# Altium footprint library HiLinkPowerSupply.PcbLib: 4 footprints
Each footprint in its own frame and in the unit in brackets; x right, y up, seen from the top. Pads: shape width x height; smd on the part's side, far side on the other; paste and mask are expansions set on the pad; w line width, h text height; cw(c..) or ccw(c..) is an arc to the next point about the centre after c.
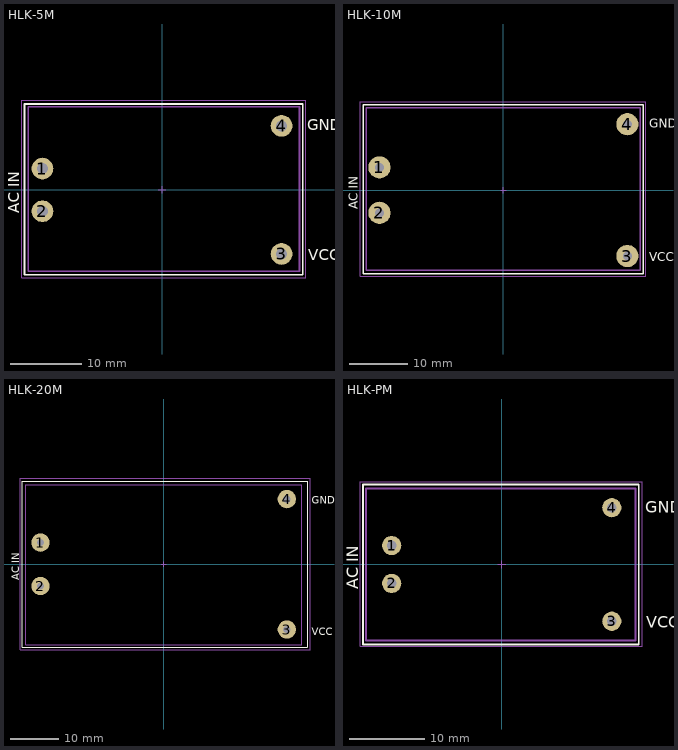
[diagram p0: the footprints below, top view; thin cyan lines are the x and y axes]

## HLK-5M [mil]
pads (4):
  round 120 hole 60: 1(-661.42,118.11) 2(-661.42,-118.11) 3(661.42,-354.33) 4(661.42,354.33)
Top Overlay:
  lines w10: -761.42,-470 -761.42,475 778.58,475 778.58,-470 -761.42,-470
  text "AC IN" at -791.42,-130 h60
  text "VCC" at 808.58,-390 h60
  text "GND" at 803.58,330 h60
Mechanical 1:
  lines w10: -740,-450 -740,460 760,460 760,-450 -740,-450
Top Designator:
  text ".Designator" at -236.14,-15.74 h47.24
Mechanical 15:
  lines w1.97: -775,-485 795,-485 795,495 -775,495 -775,-485
  lines w3.94: -19.68,0 19.69,0 ; 0,-19.68 0,19.69
3D body "User Library-hilink5M.step": height 709.05, standoff -196.85, extent -739.45,-447.76 756.61,457.76

## HLK-10M [mm]
pads (4):
  round 3.81 hole 1.524: 1(-21.25,3.9) 2(-21.25,-3.9) 3(21.25,-11.3) 4(21.25,11.3)
Top Overlay:
  lines w0.254: -24.044,-14.351 -24.044,14.605 23.962,14.605 23.962,-14.351 -24.044,-14.351
  text "VCC" at 24.978,-12.192 h1.52
  text "GND" at 24.978,10.668 h1.52
  text "AC IN" at -24.933,-3.302 h1.52
Mechanical 1:
  lines w0.254: -23.495,-13.716 -23.495,14.097 23.495,14.097 23.495,-13.716 -23.495,-13.716
Top Designator:
  text ".Designator" at -5.998,-0.273 h1.2
Mechanical 15:
  lines w0.05: -24.511,-14.732 24.384,-14.732 24.384,15.113 -24.511,15.113 -24.511,-14.732
  lines w0.1: -0.5,0 0.5,0 ; 0,-0.5 0,0.5
3D body "User Library-hilink10M.STEP": height 21.81, standoff -5, extent -23.446,-13.773 23.454,14.027

## HLK-20M [mm]
pads (4):
  round 3.81 hole 1.524: 1(-25.5,4.5) 2(-25.5,-4.5) 3(25.5,-13.5) 4(25.5,13.5)
Top Overlay:
  lines w0.254: -29.31,-17.145 29.745,-17.145 29.745,17.145 -29.31,17.145 -29.31,-17.145
  text "GND" at 30.634,12.573 h1.52
  text "VCC" at 30.634,-14.732 h1.52
  text "AC IN" at -29.945,-3.302 h1.52
Mechanical 1:
  lines w0.254: -28.575,-16.637 28.575,-16.637 28.575,16.51 -28.575,16.51 -28.575,-16.637
Top Designator:
  text ".Designator" at -5.998,-0.4 h1.2
Mechanical 15:
  lines w0.05: -29.718,-17.653 -29.718,17.78 30.353,17.78 30.353,-17.653 -29.718,-17.653
  lines w0.1: -0.5,0 0.5,0 ; 0,-0.5 0,0.5
3D body "User Library-hilink20M.step": height 22.51, standoff -5, extent -28.525,-16.49 28.475,16.51

## HLK-PM [mm]
pads (4):
  round 2.54 hole 1.27: 1(-14.54,2.5) 2(-14.54,-2.5) 3(14.54,-7.5) 4(14.54,7.5)
Top Overlay:
  lines w0.254: -18.35,-10.541 18.099,-10.541 18.099,10.541 -18.35,10.541 -18.35,-10.541
  text "GND" at 18.988,6.858 h1.52
  text "VCC" at 19.115,-8.382 h1.52
  text "AC IN" at -18.985,-3.302 h1.52
Mechanical 1:
  lines w0.254: -17.907,-10.033 -17.907,10.033 17.653,10.033 17.653,-10.033 -17.907,-10.033
Top Designator:
  text ".Designator" at -5.998,-0.4 h1.2
Mechanical 15:
  lines w0.05: -18.669,-10.795 18.542,-10.795 18.542,10.922 -18.669,10.922 -18.669,-10.795
  lines w0.1: -0.5,0 0.5,0 ; 0,-0.5 0,0.5
3D body: height 15, standoff 0, extent -17.907,-10.033 17.653,10.033